# Altium footprint library Pcb封装库.PcbLib: 36 footprints (part 2 of 3)
Each footprint in its own frame and in the unit in brackets; x right, y up, seen from the top. Pads: shape width x height; smd on the part's side, far side on the other; paste and mask are expansions set on the pad; w line width, h text height; cw(c..) or ccw(c..) is an arc to the next point about the centre after c.
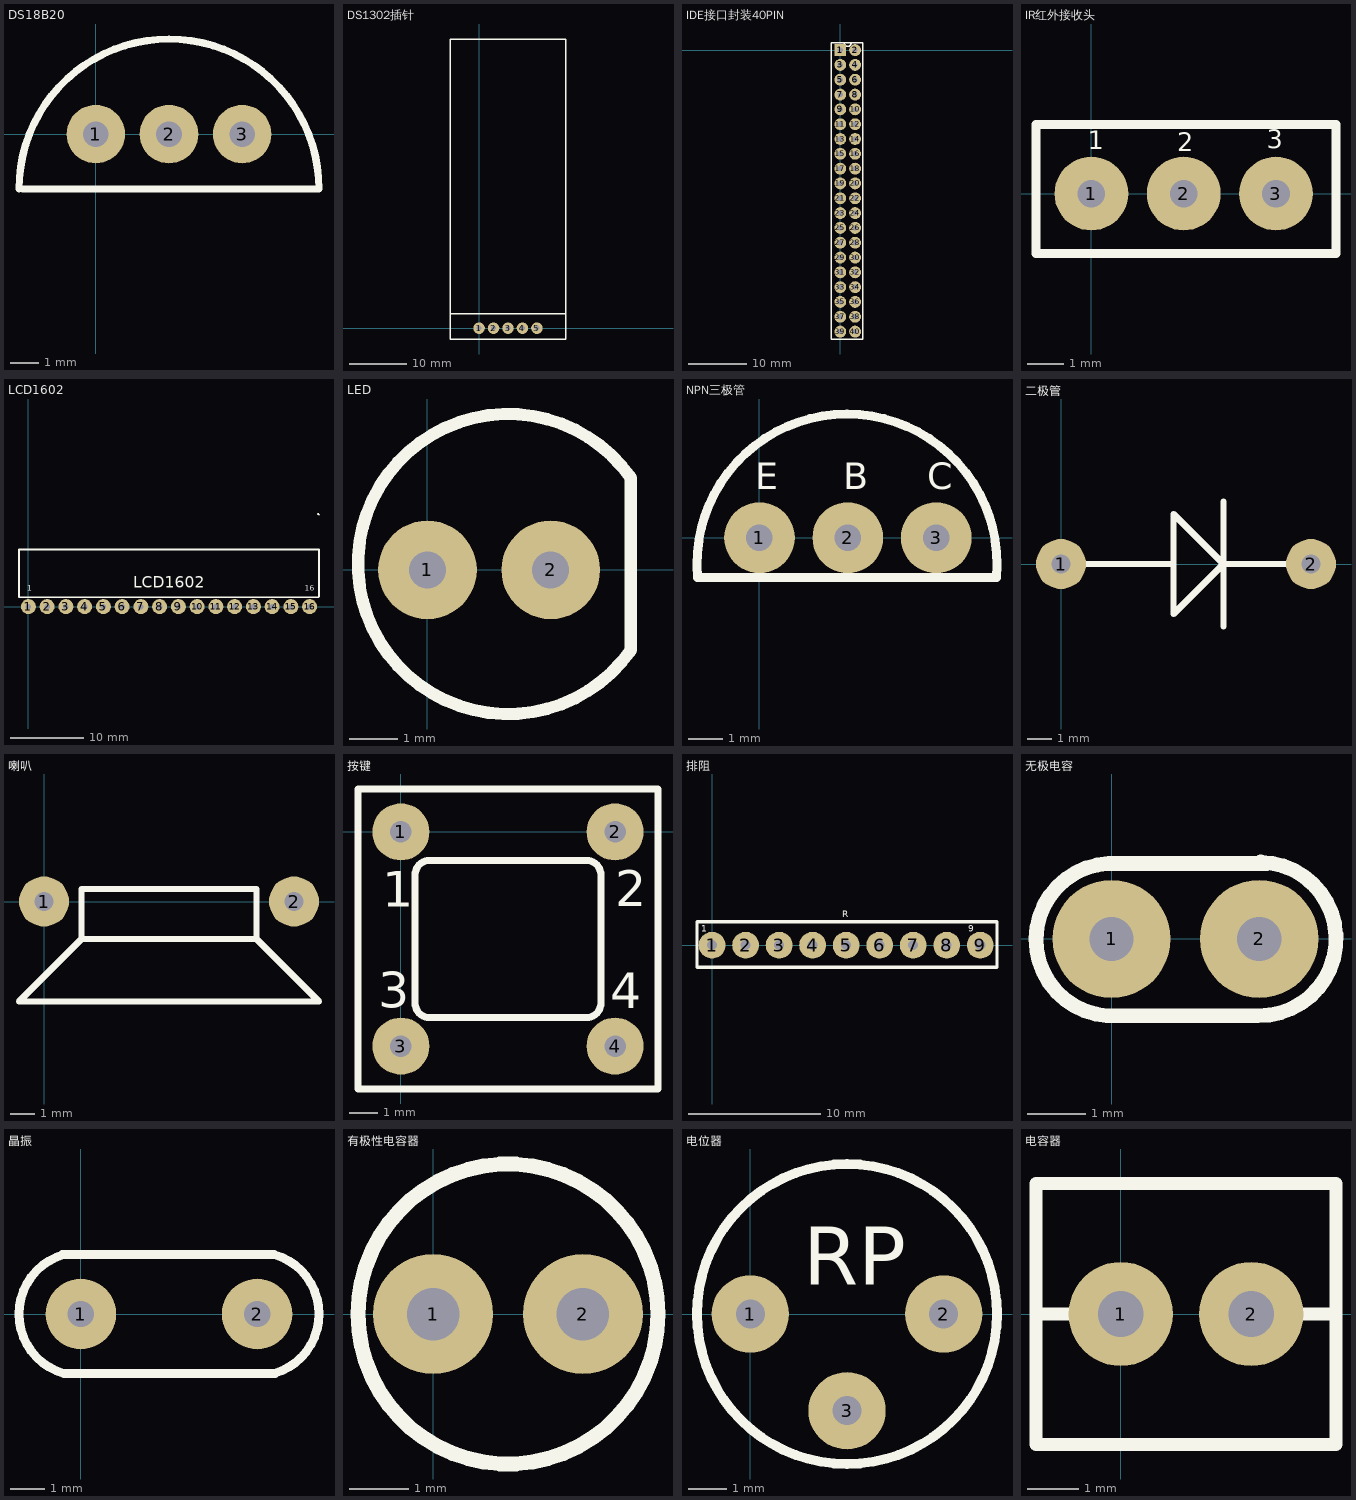
[diagram p1: the footprints below, top view; thin cyan lines are the x and y axes]

## DS18B20 [mil]
pads (3):
  round 80 hole 35: 1(0,0) 2(100,0) 3(200,0)
Top Overlay:
  lines w10: -105,-75 cw(c100,-75) 305,-75 -100,-75

## DS1302插针 [mil]
pads (5):
  round 80 hole 35: 1(0,0) 2(100,0) 3(200,0) 4(300,0) 5(400,0)
Top Overlay:
  lines w10: -200,100 600,100 ; -200,-75 -200,2000 600,2000 600,0 600,-75 -175,-75 -200,-75

## IDE接口封装40PIN [mil]
pads (40):
  rect 80x80 hole 35: 1(0,0)
  round 80 hole 35: 2(100,0) 3(0,-100) 4(100,-100) 5(0,-200) 6(100,-200) 7(0,-300) 8(100,-300) 9(0,-400) 10(100,-400) 11(0,-500) 12(100,-500) 13(0,-600) 14(100,-600) 15(0,-700) 16(100,-700) 17(0,-800) 18(100,-800) 19(0,-900) 20(100,-900) 21(0,-1000) 22(100,-1000) 23(0,-1100) 24(100,-1100) 25(0,-1200) 26(100,-1200) 27(0,-1300) 28(100,-1300) 29(0,-1400) 30(100,-1400) 31(0,-1500) 32(100,-1500) 33(0,-1600) 34(100,-1600) 35(0,-1700) 36(100,-1700) 37(0,-1800) 38(100,-1800) 39(0,-1900) 40(100,-1900)
Top Overlay:
  lines w10: -60,-1950 -60,50 75,50 cw(c50,50) 25,50 151,50 151,-1950 -60,-1950

## IR红外接收头 [mil]
pads (3):
  round 80 hole 30: 1(0,0) 2(100,0) 3(200,0)
Top Overlay:
  lines w10: -60,-65 265,-65 265,75 -60,75 -60,-65
  text "2" at 93,46 h20
  text "3" at 190,49 h20
  text "1" at -4,48 h20

## LCD1602 [mil]
pads (16):
  round 80 hole 30: 1(0,0) 2(100,0) 3(200,0) 4(300,0) 5(400,0) 6(500,0) 7(600,0) 8(700,0) 9(800,0) 10(900,0) 11(1000,0) 12(1100,0) 13(1200,0) 14(1300,0) 15(1400,0) 16(1500,0)
Top Overlay:
  lines w10: 1545,495 1550,490 ; -50,50 -50,305 1550,305 1550,55 1545,50 -50,50
  text "LCD1602" at 560,100 h60
  text "1" at -5,85 h30
  text "16" at 1475,85 h30

## LED [mil]
pads (2):
  round 80 hole 30: 1(0,0) 2(100,0)
Top Overlay:
  lines w10: 165,-65 cw(c65.34,4.76) 165,74.53 165,-65

## NPN三极管 [mil]
pads (3):
  round 80 hole 30: 1(0,0) 2(100,0) 3(200,0)
Top Overlay:
  lines w10: -70,-45 cw(c99.06,-29.74) 268.11,-44.99 -70,-44.99
  text "C" at 190,55 h30
  text "B" at 95,55 h30
  text "E" at -5,55 h30

## 二极管 [mil]
pads (2):
  round 80 hole 30: 1(0,0) 2(400,0)
Top Overlay:
  lines w10: 40,0 180,0 ; 260,-100 260,100 ; 360,0 260,0 ; 260,0 180,-80 180,80 260,0

## 喇叭 [mil]
pads (2):
  round 80 hole 30: 1(0,0) 2(400,0)
Top Overlay:
  lines w10: 60,-60 -40,-160 440,-160 340,-60 ; 60,-60 60,20 ; 60,-60 340,-60 ; 60,-60 60,20 ; 60,20 340,20 340,-60

## 按键 [mil]
pads (4):
  round 80 hole 30: 1(0,0) 2(300,0) 3(0,-300) 4(300,-300)
Top Overlay:
  lines w10: -60,-360 -60,60 360,60 360,-360 -60,-360 ; 20,-240 ccw(c40,-240) 40,-260 260,-260 ccw(c260,-240) 280,-240 280,-60 ccw(c260,-60) 260,-40 40,-40 ccw(c40,-60) 20,-60 20,-240
  text "1" at -26,-105 h50
  text "2" at 300,-104 h50
  text "3" at -32,-246 h50
  text "4" at 293,-247 h50

## 排阻 [mil]
pads (9):
  round 80 hole 30: 1(0,0) 2(100,0) 3(200,0) 4(300,0) 5(400,0) 6(500,0) 7(600,0) 8(700,0) 9(800,0)
Top Overlay:
  lines w10: -45,-66 -45,70 850,70 850,36 850,-32 850,-66 -45,-66
  text "R" at 389,83 h20
  text "1" at -32,40 h20
  text "9" at 764,40 h20

## 无极电容 [mil]
pads (2):
  round 80 hole 30: 1(0,0) 2(100,0)
Top Overlay:
  lines w10: 100.96,52 cw(c99.96,0) 99,-52 -3,-52 cw(c0.5,-0.5) -1.87,51.06 104.94,51.06

## 晶振 [mil]
pads (2):
  round 80 hole 30: 1(0,0) 2(200,0)
Top Overlay:
  lines w10: -20.7,67.53 219.18,67.51 cw(c200,0) 219.17,-67.51 ; -19.28,67.48 ccw(c0,0) -19.28,-67.48 220.6,-67.5

## 有极性电容器 [mil]
pads (2):
  round 80 hole 35: 1(0,0) 2(100,0)
Top Overlay:
  circle w10: c50,0 r100
  lines w10: 75,-20 75,20

## 电位器 [mil]
pads (3):
  round 80 hole 30: 1(0,0) 2(200,0) 3(100,-100)
Top Overlay:
  circle w10: c100,0 r155.08
  text "RP" at 55,30 h60

## 电容器 [mil]
pads (2):
  round 80 hole 35: 1(0,0) 2(100,0)
Top Overlay:
  lines w10: -65,0 20,0 ; 80,0 165,0 ; 165,0 165,100 -65,100 -65,-100 165,-100 165,0